# EAGLE library part IR4426 (library ir)
DUAL LOW SIDE DRIVER Source: ID4426.pdf
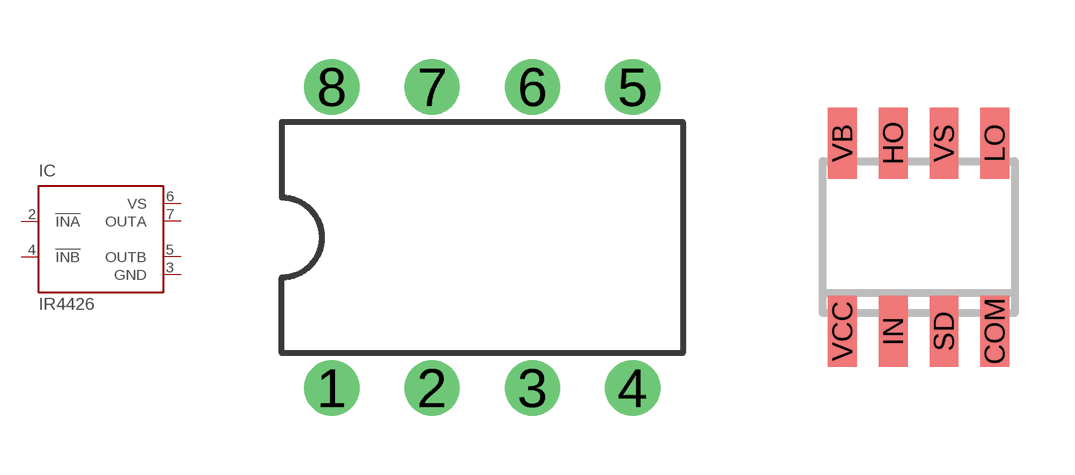
[diagram p3: symbol with the pads of DIL08; footprints DIL08, SO08]

Designator prefix IC

## IR4426 (MF: INTERNATIONAL RECTIFIER(IR); MPN: IR4426PBF; OC_FARNELL: 1023265; OC_NEWARK: 19K8460)  [DIL08]
2  !INA  in
3  GND  pwr
4  !INB  in
5  OUTB  out
6  VS  pwr
7  OUTA  out

## IR4426S (MF: INTERNATIONAL RECTIFIER(IR); MPN: IR4426S; OC_FARNELL: 1023266; OC_NEWARK: 27C6913)  [SO08]
COM  !INB  in
HO  OUTA  out
IN  !INA  in
LO  OUTB  out
SD  GND  pwr
VS  VS  pwr

## Footprint DIL08 (pad centres in mm)
Dual In Line Package
drill 0.8 pad 1.4: 1 -3.81,-3.81; 2 -1.27,-3.81; 3 1.27,-3.81; 4 3.81,-3.81; 5 3.81,3.81; 6 1.27,3.81; 7 -1.27,3.81; 8 -3.81,3.81

## Footprint SO08 (pad centres in mm)
8 Lead SOIC Data Sheet No. PD60212 Rev A Source: www.irf.com .. ir2520.pdf
smd 0.72 x 1.78: COM 1.905,-2.35; HO -0.635,2.35; IN -0.635,-2.35; LO 1.905,2.35; SD 0.635,-2.35; VB -1.905,2.35; VCC -1.905,-2.35; VS 0.635,2.35